# Altium footprint library SW_PB400EEQR1BLK.PcbLib: 1 footprints
Each footprint in its own frame and in the unit in brackets; x right, y up, seen from the top. Pads: shape width x height; smd on the part's side, far side on the other; paste and mask are expansions set on the pad; w line width, h text height; cw(c..) or ccw(c..) is an arc to the next point about the centre after c.
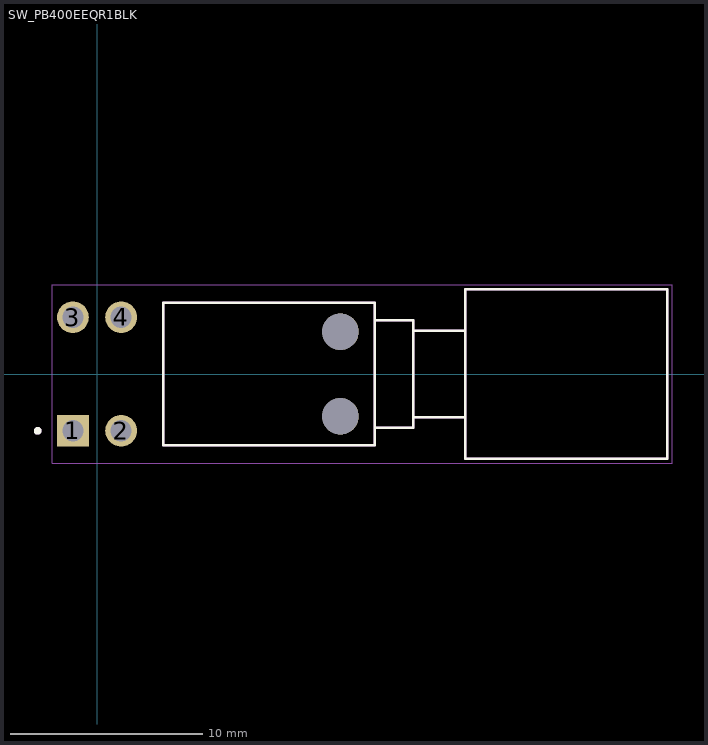
[diagram p0: the footprint, top view; thin cyan lines are the x and y axes]

## SW_PB400EEQR1BLK [mm]
height 10.6
pads (6):
  rect 1.65x1.65 / inner round 1.65 / far side rect 1.65x1.65 hole 1.1: 1(-1.25,-2.95)
  round 1.65 hole 1.1: 2(1.25,-2.95) 3(-1.25,2.95) 4(1.25,2.95)
  round 1.9 hole 1.9 unplated: ""(12.65,-2.2) ""(12.65,2.2)
Top Overlay:
  circle w0.2: c-3.08,-2.953 r0.1
  lines w0.127: 14.44,-2.8 14.44,-3.7 3.44,-3.7 3.44,3.7 14.44,3.7 14.44,2.8 ; 14.44,-2.8 14.44,2.8 ; 14.44,-2.8 16.44,-2.8 16.44,-2.25 ; 14.44,2.8 16.44,2.8 16.44,2.25 ; 16.44,-2.25 16.44,2.25 ; 16.44,-2.25 19.14,-2.25 ; 16.44,2.25 19.14,2.25 ; 19.14,-2.25 19.14,2.25 ; 19.14,-2.25 19.14,-4.4 29.64,-4.4 29.64,4.4 19.14,4.4 19.14,2.25
Mechanical 13:
  circle w0.2: c-3.08,-2.953 r0.1
  lines w0.127: 14.44,-2.8 14.44,-3.7 3.44,-3.7 3.44,3.7 14.44,3.7 14.44,2.8 ; 14.44,-2.8 14.44,2.8 ; 14.44,-2.8 16.44,-2.8 16.44,-2.25 ; 14.44,2.8 16.44,2.8 16.44,2.25 ; 16.44,-2.25 16.44,2.25 ; 16.44,-2.25 19.14,-2.25 ; 16.44,2.25 19.14,2.25 ; 19.14,-2.25 19.14,2.25 ; 19.14,-2.25 19.14,-4.4 29.64,-4.4 29.64,4.4 19.14,4.4 19.14,2.25
Mechanical 15:
  lines w0.05: -2.325,-4.65 -2.325,4.65 29.89,4.65 29.89,-4.65 -2.325,-4.65
3D body "step_temp.STEP": height 10.2, standoff -2.55, extent -2.17,-4.4 29.64,4.4